# EAGLE library part 691311500113 (library WR-TBL Pluggable Connector)
WR-TBL Serie 311 - 5.08 mm Close Vertical PCB Header KIND PROPERTIES Pitch 5.08 mm MATERIAL PROPERTIES Insulator Material PA66; PBT Insulator Flammability Rating UL94 V-0 Insulator Color Green Contact Material Brass Contact Plating Tin GENERAL INFORMATION Operating Temperature -40 up to +105 °C Compliance RoHS ELECTRICAL PROPERTIES IR cULus 20 A IR VDE 20 A Working Voltage 300 V (AC) Working Voltage [cULus] 300 V (AC) Working Voltage [VDE] 300 V (AC) Withstanding Voltage [cULus] 1600 V (AC) Withstanding Voltage [VDE] 2500 V (AC) Contact Resistance [cULus] 20 mΩ Contact Resistance [VDE] 20 mΩ CERTIFICATION cULus Approval E315414 VDE Approval 40023195 <https://www.we-online.com/catalog/media/o33258v209%20Family_WR-TBL_6913115001xx.jpg> Details see: www.we-online.com/catalog/TBL_5_08_311_CLOSE_VERTICAL_PCB_HEADER_6913115001XX <www.we-online.com/catalog/TBL_5_08_311_CLOSE_VERTICAL_PCB_HEADER_6913115001XX//?utm_source=eagle_model&utm_medium=description_link&utm_campaign=eisos_eagle> Updated by Ella Wu 2022-07-25 2022(C) Wurth Elektronik
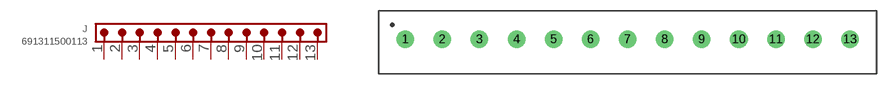
[diagram p228: symbol with the pads of 691311500113; footprint 691311500113]

Designator prefix J

## 691311500113 (DATASHEET-URL: https://www.we-online.com/redexpert/spec/691311500113?ae; IR-UL: 20A; IR-VDE: 20A; MOUNT: THT; PART-NUMBER: 691311500113; PINS: 13; PITCH: 5.08mm; TYPE: Vertical; VALUE: 691311500113; WORKING-VOLTAGE-UL: 300V (AC); WORKING-VOLTAGE-VDE: 300V (AC))  [691311500113]
1  1  pas
2  2  pas
3  3  pas
4  4  pas
5  5  pas
6  6  pas
7  7  pas
8  8  pas
9  9  pas
10  10  pas
11  11  pas
12  12  pas
13  13  pas

## Footprint 691311500113 (pad centres in mm)
WR-TBL Serie 311 - 5.08 mm Close Vertical PCB Header Max Height = 12mm , Pitch 5.08mm , 13pins
drill 1.6: 1 -30.48,0; 2 -25.4,0; 3 -20.32,0; 4 -15.24,0; 5 -10.16,0; 6 -5.08,0; 7 0,0; 8 5.08,0; 9 10.16,0; 10 15.24,0; 11 20.32,0; 12 25.4,0; 13 30.48,0